# Altium footprint library 2020-03-29_20-06-19.PcbLib: 3 footprints
Each footprint in its own frame and in the unit in brackets; x right, y up, seen from the top. Pads: shape width x height; smd on the part's side, far side on the other; paste and mask are expansions set on the pad; w line width, h text height; cw(c..) or ccw(c..) is an arc to the next point about the centre after c.
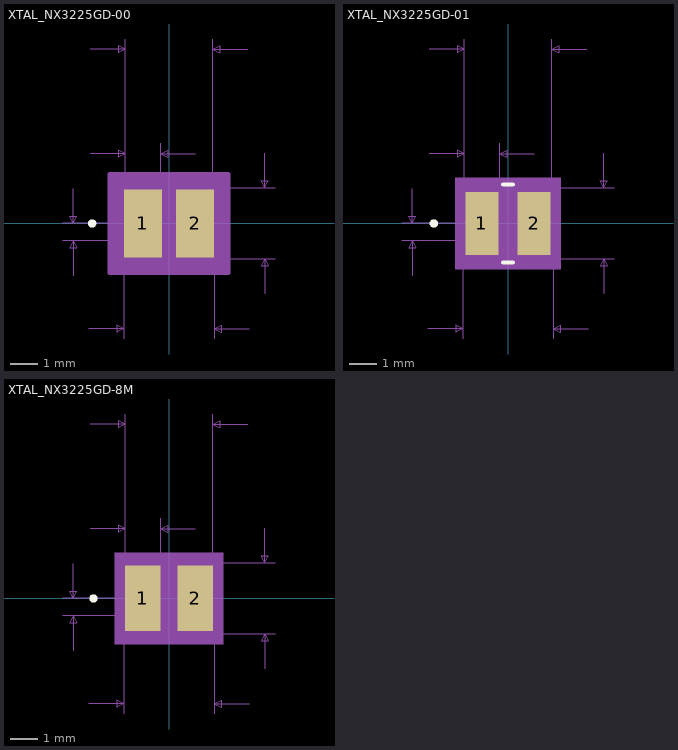
[diagram p0: the footprints below, top view; thin cyan lines are the x and y axes]

## XTAL_NX3225GD-00 [mil]
pads (2):
  rect 54.94x97.94 smd paste+0 mask+0: 1(-37.5,0) 2(37.5,0)
Top Overlay:
  circle w6: c-110.47,0 r3
Mechanical 5:
  region: 79.97,-66 -79.97,-66 -79.97,66 79.97,66
Mechanical 7:
  lines w1: -152.5,-25 -37.5,-25 ; -152.5,0 -37.5,0 ; -137.5,-75 -137.5,-25 ; -137.5,50 -137.5,0 ; -115,-151 -65,-151 ; -113,100 -63,100 ; -113,250 -63,250 ; -65,-166 -65,-51 ; -63,115 -63,0 -63,265 ; -12,0 -12,115 ; 38,100 -12,100 ; 63,0 63,265 ; 65,-166 65,-51 152.5,-51 ; 65,51 152.5,51 ; 113,250 63,250 ; 115,-151 65,-151 ; 137.5,-101 137.5,-51 ; 137.5,101 137.5,51 ; -137.5,-25 -142.5,-35 -132.5,-35 -137.5,-25 ; -137.5,0 -142.5,10 -132.5,10 -137.5,0 ; -65,-151 -75,-146 -75,-156 -65,-151 ; -63,100 -73,105 -73,95 -63,100 ; -63,250 -73,255 -73,245 -63,250 ; -12,100 -2,105 -2,95 -12,100 ; 63,250 73,255 73,245 63,250 ; 65,-151 75,-146 75,-156 65,-151 ; 137.5,-51 132.5,-61 142.5,-61 137.5,-51 ; 137.5,51 132.5,61 142.5,61 137.5,51
  text "Default Padstyle: r140_249" at -325,-421 h50
  text "Alt 1 Padstyle: b152_229h76" at -337.5,-601 h50
  text "Alt 2 Padstyle: b229_152h76" at -337.5,-661 h50
  text "0.126in/3.2mm" at -81.25,270 h25
  text "0.051in/1.295mm" at -131.25,120 h25
  text "0.025in/0.635mm" at -345,-25 h25
  text "0.102in/2.591mm" at 157.5,-12.5 h25
  text "0.13in/3.302mm" at -87.5,-196 h25
Mechanical 13:
  circle w0: c0,0 r3
  lines w1: -65,-51 65,-51 65,51 -65,51 -65,-51
Mechanical 15:
  region: -85,-68.97 -85,68.97 -85,71 85,71 85,68.97 85,-68.97 85,-71 -85,-71
  lines w6: -85,-68.97 -85,68.97 ; -85,-68.97 -85,-68.97 ; -85,-68.97 -85,-71 85,-71 85,-68.97 ; -85,68.97 -85,68.97 ; -85,68.97 -85,71 85,71 85,68.97 ; 85,-68.97 85,68.97 ; 85,-68.97 85,-68.97 ; 85,68.97 85,68.97
3D body: height 10, standoff 0, extent 0,0 10,10

## XTAL_NX3225GD-01 [mil]
pads (2):
  rect 47.06x90.06 smd paste+0 mask+0: 1(-37.5,0) 2(37.5,0)
Top Overlay:
  circle w6: c-106.53,0 r3
  lines w6: -6.81,-56 6.81,-56 ; -6.81,56 6.81,56
Mechanical 5:
  region: 76.03,-66 -76.03,-66 -76.03,66 76.03,66
Mechanical 7:
  lines w1: -152.5,-25 -37.5,-25 ; -152.5,0 -37.5,0 ; -137.5,-75 -137.5,-25 ; -137.5,50 -137.5,0 ; -115,-151 -65,-151 ; -113,100 -63,100 ; -113,250 -63,250 ; -65,-166 -65,-51 ; -63,115 -63,0 -63,265 ; -12,0 -12,115 ; 38,100 -12,100 ; 63,0 63,265 ; 65,-166 65,-51 152.5,-51 ; 65,51 152.5,51 ; 113,250 63,250 ; 115,-151 65,-151 ; 137.5,-101 137.5,-51 ; 137.5,101 137.5,51 ; -137.5,-25 -142.5,-35 -132.5,-35 -137.5,-25 ; -137.5,0 -142.5,10 -132.5,10 -137.5,0 ; -65,-151 -75,-146 -75,-156 -65,-151 ; -63,100 -73,105 -73,95 -63,100 ; -63,250 -73,255 -73,245 -63,250 ; -12,100 -2,105 -2,95 -12,100 ; 63,250 73,255 73,245 63,250 ; 65,-151 75,-146 75,-156 65,-151 ; 137.5,-51 132.5,-61 142.5,-61 137.5,-51 ; 137.5,51 132.5,61 142.5,61 137.5,51
  text "Default Padstyle: r120_229" at -325,-421 h50
  text "Alt 1 Padstyle: b152_229h76" at -337.5,-601 h50
  text "Alt 2 Padstyle: b229_152h76" at -337.5,-661 h50
  text "0.126in/3.2mm" at -81.25,270 h25
  text "0.051in/1.295mm" at -131.25,120 h25
  text "0.025in/0.635mm" at -345,-25 h25
  text "0.102in/2.591mm" at 157.5,-12.5 h25
  text "0.13in/3.302mm" at -87.5,-196 h25
Mechanical 13:
  circle w0: c0,0 r3
  lines w1: -65,-51 65,-51 65,51 -65,51 -65,-51
Mechanical 15:
  region: -69,-49.03 -69,49.03 -69,55 69,55 69,49.03 69,-49.03 69,-55 -69,-55
  lines w6: -69,-49.03 -69,49.03 ; -69,-49.03 -69,-49.03 ; -69,-49.03 -69,-55 69,-55 69,-49.03 ; -69,49.03 -69,49.03 ; -69,49.03 -69,55 69,55 69,49.03 ; 69,-49.03 69,49.03 ; 69,-49.03 69,-49.03 ; 69,49.03 69,49.03
3D body: height 10, standoff 0, extent 0,0 10,10

## XTAL_NX3225GD-8M [mil]
pads (2):
  rect 51x94 smd paste+0 mask+0: 1(-37.5,0) 2(37.5,0)
Top Overlay:
  circle w6: c-108.5,0 r3
Mechanical 5:
  region: 78,-66 -78,-66 -78,66 78,66
Mechanical 7:
  lines w1: -152.5,-25 -37.5,-25 ; -152.5,0 -37.5,0 ; -137.5,-75 -137.5,-25 ; -137.5,50 -137.5,0 ; -115,-151 -65,-151 ; -113,100 -63,100 ; -113,250 -63,250 ; -65,-166 -65,-51 ; -63,115 -63,0 -63,265 ; -12,0 -12,115 ; 38,100 -12,100 ; 63,0 63,265 ; 65,-166 65,-51 152.5,-51 ; 65,51 152.5,51 ; 113,250 63,250 ; 115,-151 65,-151 ; 137.5,-101 137.5,-51 ; 137.5,101 137.5,51 ; -137.5,-25 -142.5,-35 -132.5,-35 -137.5,-25 ; -137.5,0 -142.5,10 -132.5,10 -137.5,0 ; -65,-151 -75,-146 -75,-156 -65,-151 ; -63,100 -73,105 -73,95 -63,100 ; -63,250 -73,255 -73,245 -63,250 ; -12,100 -2,105 -2,95 -12,100 ; 63,250 73,255 73,245 63,250 ; 65,-151 75,-146 75,-156 65,-151 ; 137.5,-51 132.5,-61 142.5,-61 137.5,-51 ; 137.5,51 132.5,61 142.5,61 137.5,51
  text "Default Padstyle: r130_239" at -325,-421 h50
  text "Alt 1 Padstyle: b152_229h76" at -337.5,-601 h50
  text "Alt 2 Padstyle: b229_152h76" at -337.5,-661 h50
  text "0.126in/3.2mm" at -81.25,270 h25
  text "0.051in/1.295mm" at -131.25,120 h25
  text "0.025in/0.635mm" at -345,-25 h25
  text "0.102in/2.591mm" at 157.5,-12.5 h25
  text "0.13in/3.302mm" at -87.5,-196 h25
Mechanical 13:
  circle w0: c0,0 r3
  lines w1: -65,-51 65,-51 65,51 -65,51 -65,-51
Mechanical 15:
  region: -75,-57 -75,57 -75,61 75,61 75,57 75,-57 75,-61 -75,-61
  lines w6: -75,-57 -75,57 ; -75,-57 -75,-57 ; -75,-57 -75,-61 75,-61 75,-57 ; -75,57 -75,57 ; -75,57 -75,61 75,61 75,57 ; 75,-57 75,57 ; 75,-57 75,-57 ; 75,57 75,57
3D body: height 10, standoff 0, extent 0,0 10,10